# Altium schematic symbol library Schlib1.SchLib: 4 symbols
Pins are listed as number, name and electrical type; pins without a type are passive.

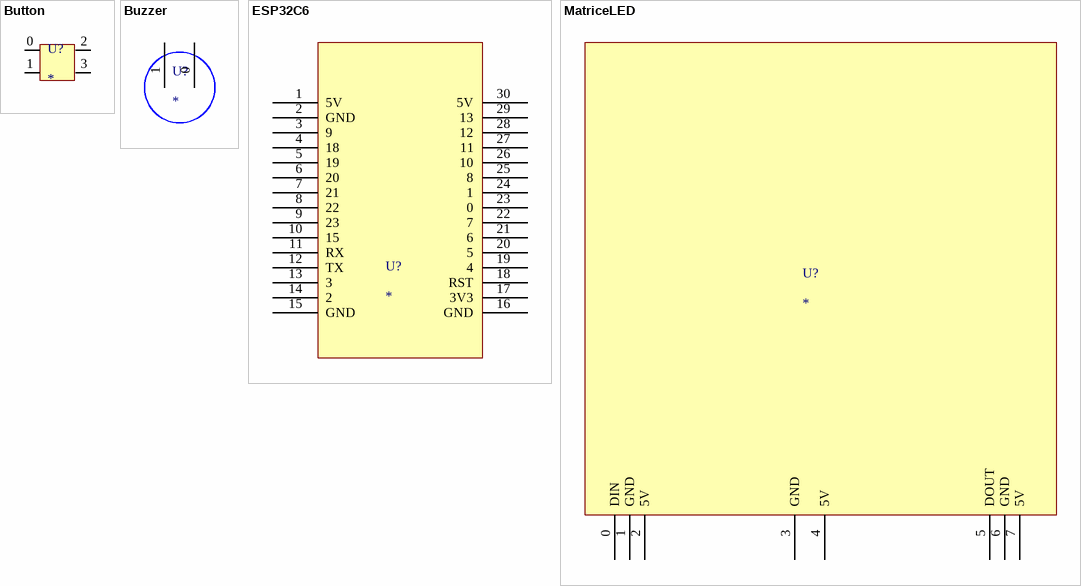
[diagram p0: symbols Button to MatriceLED]

## Button
designator U?
footprint BOUTON
pins: 0 31, 1 31, 2 31, 3 31

## Buzzer
designator U?
footprint BUZZER
pins: 0 31, 1 31

## ESP32C6
designator U?
footprint ESP32
pins: 1 5V, 2 GND, 3 9, 4 18, 5 19, 6 20, 7 21, 8 22, 9 23, 10 15, 11 RX, 12 TX, 13 3, 14 2, 15 GND, 16 GND, 17 3V3, 18 RST, 19 4, 20 5, 21 6, 22 7, 23 0, 24 1, 25 8, 26 10, 27 11, 28 12, 29 13, 30 5V

## MatriceLED
designator U?
footprint MATRICEled
pins: 0 DIN, 1 GND, 2 5V, 3 GND, 4 5V, 5 DOUT, 6 GND, 7 5V